# EAGLE library part USBULC6 (library SW_Passives)
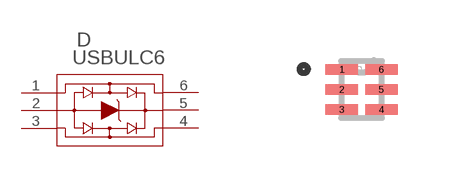
[diagram p1: symbol with the pads of MICROQFN6_1P45X1_STM-M; footprint MICROQFN6_1P45X1_STM-M]

Designator prefix D

## USBULC62M6 (CATEGORY: Resistor; MFGS: STMicroelectronics; MPNS: USBULC6-2M6; PACKAGE: uQFN-6)  [MICROQFN6_1P45X1_STM-M]
1  1  pas
2  2  pas
3  3  pas
4  4  pas
5  5  pas
6  6  pas

## Footprint MICROQFN6_1P45X1_STM-M (pad centres in mm)
smd 0.813 x 0.254: 1 -0.495,0.5; 2 -0.495,0; 3 -0.495,-0.5; 4 0.495,-0.5; 5 0.495,0; 6 0.495,0.5